# Altium footprint library GD32H759IMT6 V12.PcbLib: 25 footprints (part 2 of 2)
Each footprint in its own frame and in the unit in brackets; x right, y up, seen from the top. Pads: shape width x height; smd on the part's side, far side on the other; paste and mask are expansions set on the pad; w line width, h text height; cw(c..) or ccw(c..) is an arc to the next point about the centre after c.
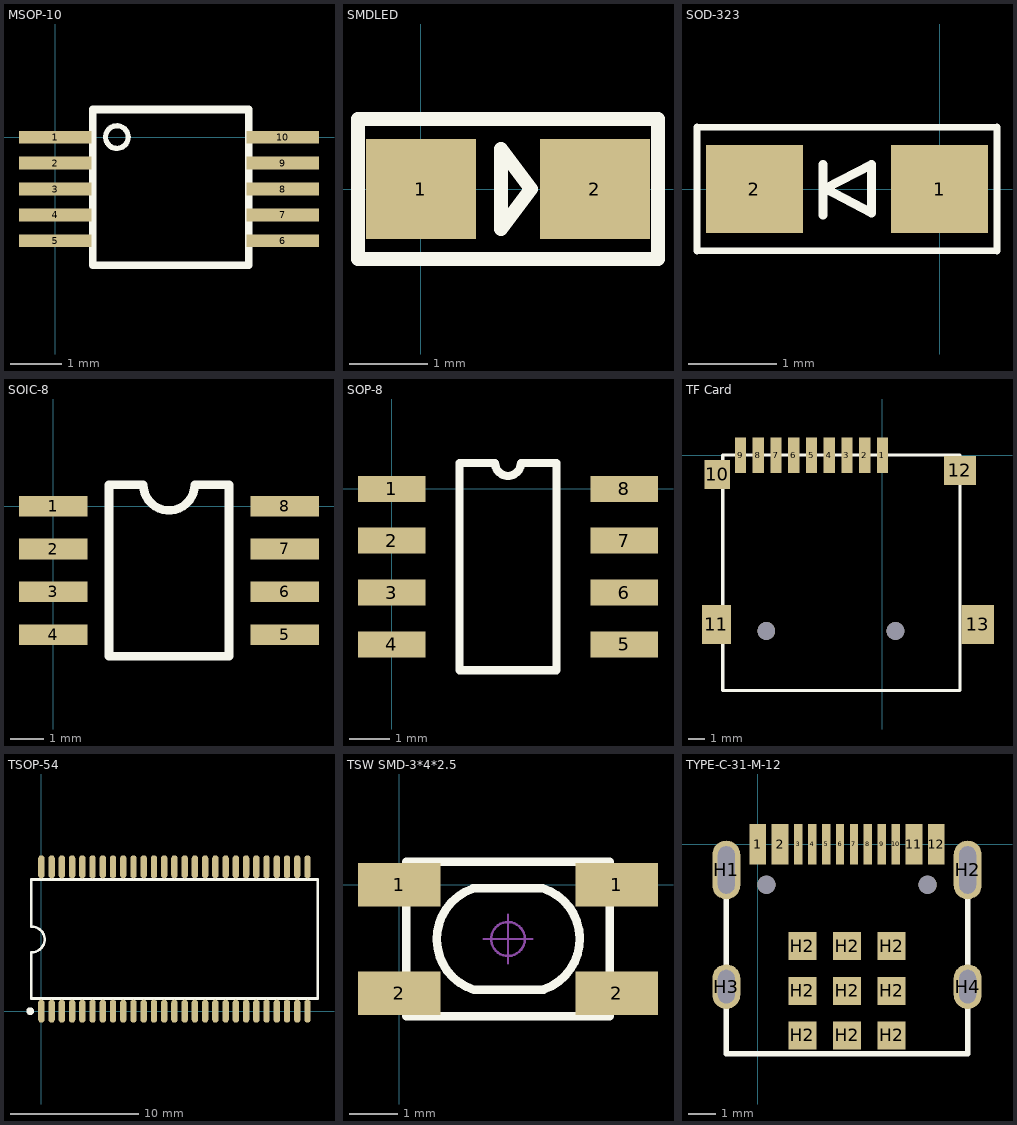
[diagram p1: the footprints below, top view; thin cyan lines are the x and y axes]

## MSOP-10 [mm]
pads (10):
  rect 1.4x0.25 smd: 1(0,0) 2(0,-0.5) 3(0,-1) 4(0,-1.5) 5(0,-2) 6(4.4,-2) 7(4.4,-1.5) 8(4.4,-1) 9(4.4,-0.5) 10(4.4,0)
Top Overlay:
  circle w0.1: c1.192,0.004 r0.219
  lines w0.15: 0.727,-2.473 0.727,0.538 3.741,0.538 3.741,-0.927 3.741,-2.473 0.727,-2.473

## SMDLED [mm]
pads (2):
  rect 1.4x1.27 smd: 1(0,0) 2(2.21,0)
Top Overlay:
  lines w0.178: 3.011,0.889 3.01,0.889 ; 3.01,0.889 -0.8,0.889 -0.8,0 -0.8,-0.889 3.01,-0.889 3.01,0.889 ; 1.016,-0.508 1.397,0 1.016,0.508 1.016,-0.508

## SOD-323 [mm]
pads (2):
  rect 1.1x1 smd: 1(0,0) 2(-2.1,0)
Top Overlay:
  lines w0.076: -2.75,-0.7 0.65,-0.7 ; -2.75,0.7 0.65,0.7
  lines w0.08: -2.75,-0.7 -2.75,0.7 ; 0.65,-0.7 0.65,0.7
  lines w0.1: -1.321,-0.296 -1.321,0.279 ; -1.296,0.004 -0.771,-0.271 -0.771,0.279 -1.296,0.004

## SOIC-8 [mil]
pads (8):
  rect 80x24 smd: 1(0,0) 2(0,-50.06) 3(0,-100.06) 4(0,-150.06) 5(270,-150) 6(270,-100) 7(270,-50) 8(270,0)
Top Overlay:
  lines w10: 75,24.94 75.06,25 105,25 ccw(c135,25) 165,25 204.94,25 205,24.94 205,-175.06 65,-175.06 65,24.94 95,24.94

## SOP-8 [mil]
pads (8):
  rect 65x25 smd: 1(0,0) 2(0,-50) 3(0,-100) 4(0,-150) 5(224.41,-150) 6(224.41,-100) 7(224.41,-50) 8(224.41,0)
Top Overlay:
  lines w7.87: 65.37,-175 159.04,-175 159.04,25 124.7,25 cw(c112.2,25) 99.7,25 65.37,25 65.37,-175

## TF Card [mm]
pads (15):
  rect 0.7x2.2 smd: 1(0,0) 2(-1.1,0) 3(-2.2,0) 4(-3.3,0) 5(-4.4,0) 6(-5.5,0) 7(-6.6,0) 8(-7.7,0) 9(-8.8,0)
  rect 1.6x1.8 smd: 10(-10.25,-1.2)
  rect 1.8x2.4 smd: 11(-10.3,-10.5)
  rect 2x1.8 smd: 12(4.8,-0.95)
  rect 2x2.4 smd: 13(5.9,-10.5)
  round 1.1 hole 1.1: ""(-7.2,-10.9) ""(0.8,-10.9)
Top Overlay:
  lines w0.2: -9.9,-14.6 -9.9,0 4.8,0 4.8,-14.6 -9.9,-14.6

## TSOP-54 [mm]
pads (54):
  oval 0.5x1.8 smd: 1(0,0) 2(0.8,0) 3(1.6,0) 4(2.4,0) 5(3.2,0) 6(4,0) 7(4.8,0) 8(5.6,0) 9(6.4,0) 10(7.2,0) 11(8,0) 12(8.8,0) 13(9.6,0) 14(10.4,0) 15(11.2,0) 16(12,0) 17(12.8,0) 18(13.6,0) 19(14.4,0) 20(15.2,0) 21(16,0) 22(16.8,0) 23(17.6,0) 24(18.4,0) 25(19.2,0) 26(20,0) 27(20.8,0) 28(20.8,11.284) 29(20,11.284) 30(19.2,11.284) 31(18.4,11.284) 32(17.6,11.284) 33(16.8,11.284) 34(16,11.284) 35(15.2,11.284) 36(14.4,11.284) 37(13.6,11.284) 38(12.8,11.284) 39(12,11.284) 40(11.2,11.284) 41(10.4,11.284) 42(9.6,11.284) 43(8.8,11.284) 44(8,11.284) 45(7.2,11.284) 46(6.4,11.284) 47(5.6,11.284) 48(4.8,11.284) 49(4,11.284) 50(3.2,11.284) 51(2.4,11.284) 52(1.6,11.284) 53(0.8,11.284) 54(0,11.284)
Top Overlay:
  circle w0.3: c-0.87,-0.002 r0.15
  lines w0.2: -0.786,4.608 -0.786,0.991 21.586,0.991 21.586,10.294 -0.786,10.294 -0.786,6.608 ; -0.749,4.608 ccw(c-0.749,5.608) -0.749,6.608

## TSW SMD-3*4*2.5 [mm]
pads (4):
  rect 1.7x0.9 smd: 1(0,0) 1(4.5,0) 2(0,-2.25) 2(4.5,-2.25)
Top Overlay:
  lines w0.178: 0.15,-2.725 4.35,-2.725 ; 0.15,-1.775 0.15,-0.475 ; 0.15,0.475 4.35,0.475 ; 1.512,-0.088 ccw(c1.878,-1.125) 1.55,-2.175 2.987,-2.175 ; 1.525,-0.075 2.962,-0.075 cw(c2.634,-1.125) 3,-2.162 ; 4.35,-1.775 4.35,-0.475
Mechanical 15:
  circle w0.05: c2.25,-1.125 r0.35
  lines w0.05: 1.75,-1.125 2.75,-1.125 ; 2.25,-1.625 2.25,-0.625

## TYPE-C-31-M-12 [mm]
pads (27):
  rect 0.6x1.45 smd: 1(0,0) 2(0.8,0) 11(5.6,0) 12(6.4,0)
  rect 0.3x1.45 smd: 3(1.45,0) 4(1.95,0) 5(2.45,0) 6(2.95,0) 7(3.45,0) 8(3.95,0) 9(4.45,0) 10(4.95,0)
  oval 1x2.1 hole 0.6 slot 1.7 at 90 deg: H1(-1.125,-0.915) H2(7.525,-0.915)
  rect 1x1 smd: H2(1.6,-6.845) H2(1.6,-5.245) H2(1.6,-3.645) H2(3.2,-6.845) H2(3.2,-5.245) H2(3.2,-3.645) H2(4.8,-6.845) H2(4.8,-5.245) H2(4.8,-3.645)
  oval 1x1.6 hole 0.6 slot 1.2 at 90 deg: H3(-1.125,-5.095) H4(7.525,-5.095)
  round 0.65 hole 0.65 unplated: ""(0.31,-1.445) ""(6.09,-1.445)
Top Overlay:
  lines w0.2: -1.125,-0.915 -1.125,-5.095 -1.125,-7.502 7.525,-7.502 7.525,-5.095 7.525,-0.915